# EAGLE library part IN-8 (library mynixies)
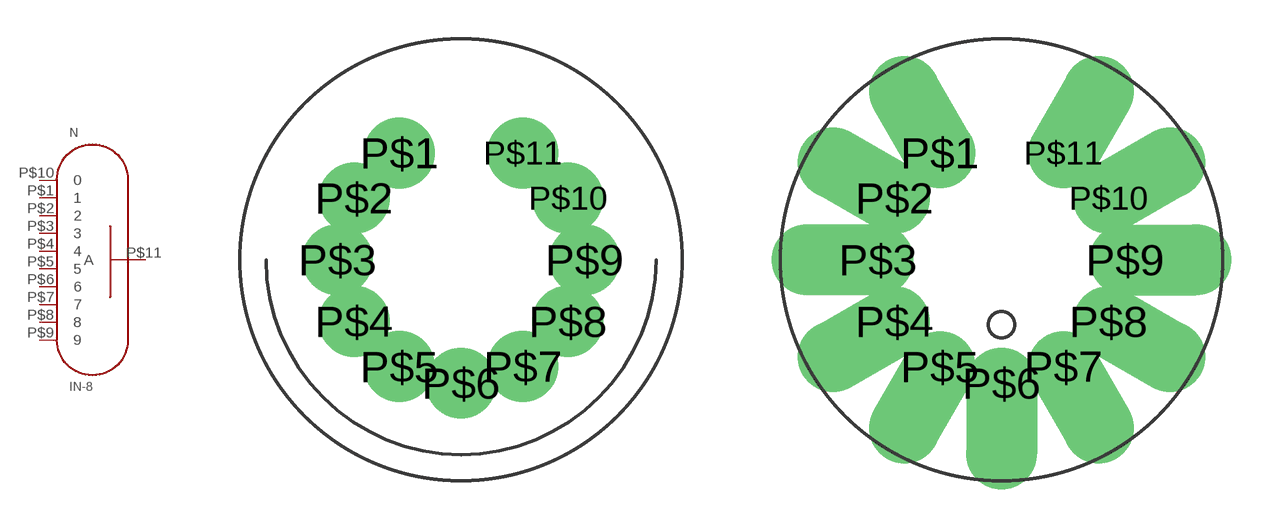
[diagram p26: symbol with the pads of IN-8-8331; footprints IN-8-8331, IN-8-8331-2]

Designator prefix N

## IN-8  [IN-8-8331]
P$1  1  pas
P$2  2  pas
P$3  3  pas
P$4  4  pas
P$5  5  pas
P$6  6  pas
P$7  7  pas
P$8  8  pas
P$9  9  pas
P$10  0  pas
P$11  A  pas

## IN-8L  [IN-8-8331-2]
Pads as for IN-8-8331

## Footprint IN-8-8331 (pad centres in mm)
drill 1.82 pad 2.2: P$1 -2.375,4.114; P$2 -4.114,2.375; P$3 -4.75,0; P$4 -4.114,-2.375; P$5 -2.375,-4.114; P$6 0,-4.75; P$7 2.375,-4.114; P$8 4.114,-2.375; P$9 4.75,0; P$10 4.114,2.375; P$11 2.375,4.114

## Footprint IN-8-8331-2 (pad centres in mm)
drill 1.82 pad 2.2 offset: P$1 -2.375,4.114; P$2 -4.114,2.375; P$3 -4.75,0; P$4 -4.114,-2.375; P$5 -2.375,-4.114; P$6 0,-4.75; P$7 2.375,-4.114; P$8 4.114,-2.375; P$9 4.75,0; P$10 4.114,2.375; P$11 2.375,4.114